# EAGLE library part TS5A23166 (library df4iah_sc-switches)
TS5A23166 0.9-Ω Dual-SPST Analog Switch
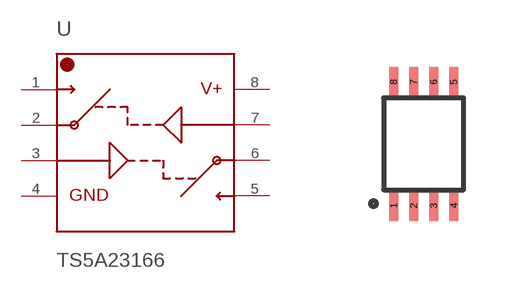
[diagram p0: symbol with the pads of R-PDSO-G8; footprint R-PDSO-G8]

Designator prefix U

## TS5A23166  [R-PDSO-G8]
1  1  pas
2  2  pas
3  3  in
4  4  pas
5  5  pas
6  6  pas
7  7  in
8  8  pwr

## Footprint R-PDSO-G8 (pad centres in mm)
R-PDSO-G8
smd 0.25 x 0.75: 1 -0.75,-1.55; 2 -0.25,-1.55; 3 0.25,-1.55; 4 0.75,-1.55; 5 0.75,1.55; 6 0.25,1.55; 7 -0.25,1.55; 8 -0.75,1.55